# EAGLE library part MCP3208 (library lib_stankus)
Microchip MCP3208 ADC
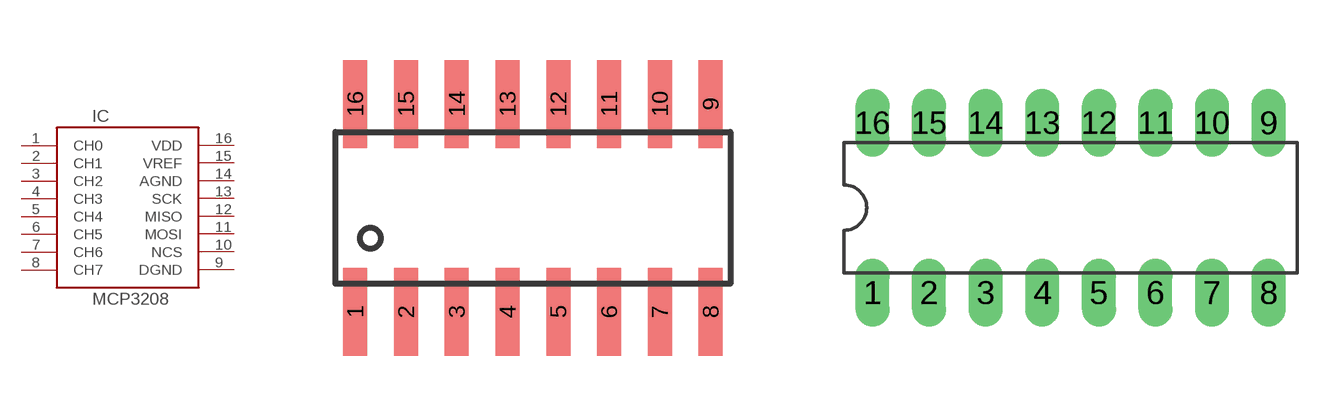
[diagram p16: symbol with the pads of SO16; footprints SO16, DIL16_BIG]

Designator prefix IC

## MCP3208-SO16  [SO16]
1  CH0  pas
2  CH1  pas
3  CH2  pas
4  CH3  pas
5  CH4  pas
6  CH5  pas
7  CH6  pas
8  CH7  pas
9  DGND  pas
10  NCS  pas
11  MOSI  pas
12  MISO  pas
13  SCK  pas
14  AGND  pas
15  VREF  pas
16  VDD  pas

## MCP3208-DIP16_BIG  [DIL16_BIG]
Pads as for SO16

## Footprint SO16 (pad centres in mm)
SO16
smd 0.6 x 2.2: 1 -4.445,-2.6; 2 -3.175,-2.6; 3 -1.905,-2.6; 4 -0.635,-2.6; 5 0.635,-2.6; 6 1.905,-2.6; 7 3.175,-2.6; 8 4.445,-2.6; 9 4.445,2.6; 10 3.175,2.6; 11 1.905,2.6; 12 0.635,2.6; 13 -0.635,2.6; 14 -1.905,2.6; 15 -3.175,2.6; 16 -4.445,2.6

## Footprint DIL16_BIG (pad centres in mm)
DIL16, 60MIL PADS
drill 0.8 pad 1.524 long: 1 -8.89,-3.81; 2 -6.35,-3.81; 3 -3.81,-3.81; 4 -1.27,-3.81; 5 1.27,-3.81; 6 3.81,-3.81; 7 6.35,-3.81; 8 8.89,-3.81; 9 8.89,3.81; 10 6.35,3.81; 11 3.81,3.81; 12 1.27,3.81; 13 -1.27,3.81; 14 -3.81,3.81; 15 -6.35,3.81; 16 -8.89,3.81